# Altium integrated library 6PinContactPad.IntLib: 1 symbol
Pins are listed as number, name and electrical type; pins without a type are passive.

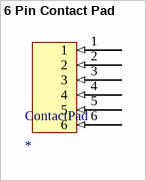
[diagram p0: symbol 6 Pin Contact Pad]

## 6 Pin Contact Pad
designator ContactPad
footprint 6PinContactPad
pins: 1 (in), 2 (in), 3 (in), 4 (in), 5 (in), 6 (in)